# EAGLE library part SMD-OCXO (library EW_Crystals Oscillators)
SMD Oven Controlled Xtal Oscillator
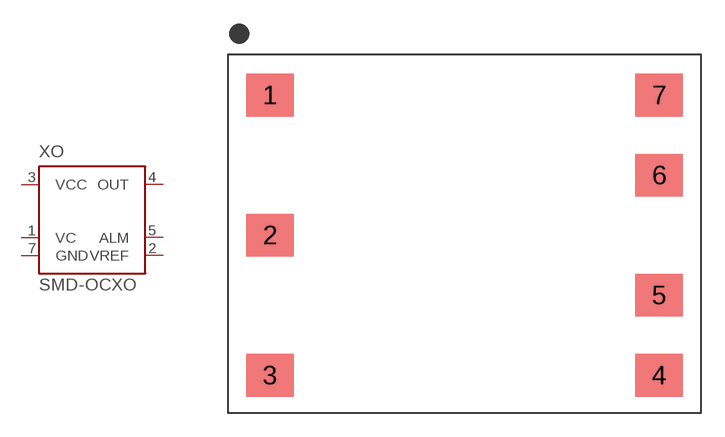
[diagram p2: symbol with the pads of CS-09-9; footprint CS-09-9]

Designator prefix XO

## SMD-OCXO-IQOV-90-18  [CS-09-9]
1  VC  in
2  VREF  out
3  VCC  pwr
4  OUT  out
5  ALM  out
7  GND  pwr

## SMD-OCXO-IQOV-90-19  [CS-09-9]
Pads as for CS-09-9

## SMD-OCXO-IQOV-90-20  [CS-09-9]
Pads as for CS-09-9

## SMD-OCXO-IQOV-90-21  [CS-09-9]
Pads as for CS-09-9

## SMD-OCXO-IQOV-90-22  [CS-09-9]
Pads as for CS-09-9

## SMD-OCXO-IQOV-90-23  [CS-09-9]
Pads as for CS-09-9

## SMD-OCXO-IQOV-90-24  [CS-09-9]
Pads as for CS-09-9

## SMD-OCXO-IQOV-90-25  [CS-09-9]
Pads as for CS-09-9

## SMD-OCXO-IQOV-90-26  [CS-09-9]
Pads as for CS-09-9

## SMD-OCXO-IQOV-90-27  [CS-09-9]
Pads as for CS-09-9

## SMD-OCXO-IQOV-90-28  [CS-09-9]
Pads as for CS-09-9

## SMD-OCXO-IQOV-90-29  [CS-09-9]
Pads as for CS-09-9

## Footprint CS-09-9 (pad centres in mm)
IQD Frequency Products Package
smd 3 x 2.7: 1 -12.35,8.9; 2 -12.35,0; 3 -12.35,-8.9; 4 12.35,-8.9; 5 12.35,-3.81; 6 12.35,3.81; 7 12.35,8.9